# EAGLE library part TPS4306*? (library kiks-ic)
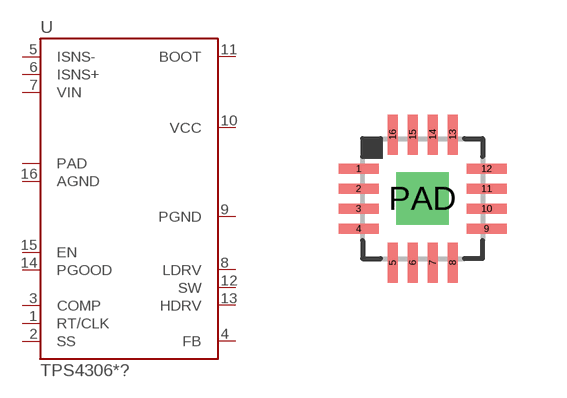
[diagram p2: symbol with the pads of QFN16-0.5; footprint QFN16-0.5]

Designator prefix U

## TPS43060, TPS43061  [QFN16-0.5]
1  RT/CLK  in
2  SS
3  COMP
4  FB  in
5  ISNS-  in
6  ISNS+  in
7  VIN  in
8  LDRV  out
9  PGND  in
10  VCC  in
11  BOOT
12  SW  in
13  HDRV  out
14  PGOOD  oc
15  EN  in
16  AGND  in
PAD  PAD  pas

## Footprint QFN16-0.5 (pad centres in mm)
smd 1 x 0.25: 1 -1.6,0.75; 2 -1.6,0.25; 3 -1.6,-0.25; 4 -1.6,-0.75; 9 1.6,-0.75; 10 1.6,-0.25; 11 1.6,0.25; 12 1.6,0.75
smd 0.25 x 1: 5 -0.75,-1.6; 6 -0.25,-1.6; 7 0.25,-1.6; 8 0.75,-1.6; 13 0.75,1.6; 14 0.25,1.6; 15 -0.25,1.6; 16 -0.75,1.6
drill 0.8 pad 1.3 square: PAD 0,0